# Altium footprint library PCB_XEM-S91.PcbLib: 7 footprints (part 3 of 3)
Each footprint in its own frame and in the unit in brackets; x right, y up, seen from the top. Pads: shape width x height; smd on the part's side, far side on the other; paste and mask are expansions set on the pad; w line width, h text height; cw(c..) or ccw(c..) is an arc to the next point about the centre after c.
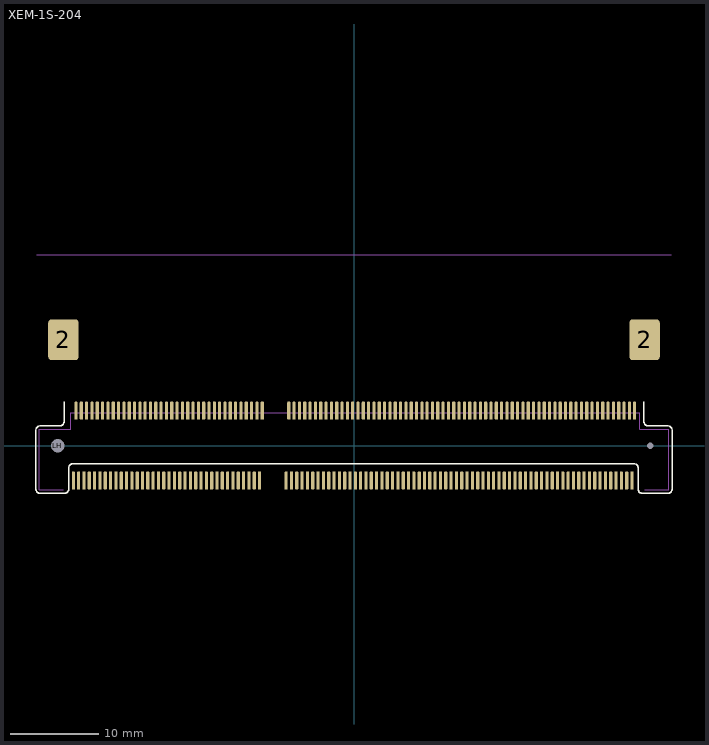
[diagram p2: the footprint, top view; thin cyan lines are the x and y axes]

## XEM-1S-204 [mil]
height 300
pads (208):
  rrect50% 14x80 smd mask+2: 1(-1246.06,-155) 2(-1234.25,155) 3(-1222.44,-155) 4(-1210.63,155) 5(-1198.82,-155) 6(-1187.01,155) 7(-1175.19,-155) 8(-1163.38,155) 9(-1151.57,-155) 10(-1139.76,155) 11(-1127.95,-155) 12(-1116.14,155) 13(-1104.33,-155) 14(-1092.52,155) 15(-1080.71,-155) 16(-1068.9,155) 17(-1057.08,-155) 18(-1045.27,155) 19(-1033.46,-155) 20(-1021.65,155) 21(-1009.84,-155) 22(-998.03,155) 23(-986.22,-155) 24(-974.41,155) 25(-962.6,-155) 26(-950.79,155) 27(-938.97,-155) 28(-927.16,155) 29(-915.35,-155) 30(-903.54,155) 31(-891.73,-155) 32(-879.92,155) 33(-868.11,-155) 34(-856.3,155) 35(-844.49,-155) 36(-832.68,155) 37(-820.86,-155) 38(-809.05,155) 39(-797.24,-155) 40(-785.43,155) 41(-773.62,-155) 42(-761.81,155) 43(-750,-155) 44(-738.19,155) 45(-726.38,-155) 46(-714.57,155) 47(-702.75,-155) 48(-690.94,155) 49(-679.13,-155) 50(-667.32,155) 51(-655.51,-155) 52(-643.7,155) 53(-631.89,-155) 54(-620.08,155) 55(-608.27,-155) 56(-596.46,155) 57(-584.64,-155) 58(-572.83,155) 59(-561.02,-155) 60(-549.21,155) 61(-537.4,-155) 62(-525.59,155) 63(-513.78,-155) 64(-501.97,155) 65(-490.16,-155) 66(-478.35,155) 67(-466.53,-155) 68(-454.72,155) 69(-442.91,-155) 70(-431.1,155) 71(-419.29,-155) 72(-407.48,155) 73(-301.18,-155) 74(-289.37,155) 75(-277.56,-155) 76(-265.75,155) 77(-253.94,-155) 78(-242.13,155) 79(-230.31,-155) 80(-218.5,155) 81(-206.69,-155) 82(-194.88,155) 83(-183.07,-155) 84(-171.26,155) 85(-159.45,-155) 86(-147.64,155) 87(-135.83,-155) 88(-124.02,155) 89(-112.2,-155) 90(-100.39,155) 91(-88.58,-155) 92(-76.77,155) 93(-64.96,-155) 94(-53.15,155) 95(-41.34,-155) 96(-29.53,155) 97(-17.72,-155) 98(-5.91,155) 99(5.91,-155) 100(17.72,155) 101(29.53,-155) 102(41.34,155) 103(53.15,-155) 104(64.96,155) 105(76.77,-155) 106(88.58,155) 107(100.39,-155) 108(112.2,155) 109(124.02,-155) 110(135.83,155) 111(147.64,-155) 112(159.45,155) 113(171.26,-155) 114(183.07,155) 115(194.88,-155) 116(206.69,155) 117(218.5,-155) 118(230.31,155) 119(242.13,-155) 120(253.94,155) 121(265.75,-155) 122(277.56,155) 123(289.37,-155) 124(301.18,155) 125(312.99,-155) 126(324.8,155) 127(336.61,-155) 128(348.42,155) 129(360.24,-155) 130(372.05,155) 131(383.86,-155) 132(395.67,155) 133(407.48,-155) 134(419.29,155) 135(431.1,-155) 136(442.91,155) 137(454.72,-155) 138(466.53,155) 139(478.35,-155) 140(490.16,155) 141(501.97,-155) 142(513.78,155) 143(525.59,-155) 144(537.4,155) 145(549.21,-155) 146(561.02,155) 147(572.83,-155) 148(584.64,155) 149(596.46,-155) 150(608.27,155) 151(620.08,-155) 152(631.89,155) 153(643.7,-155) 154(655.51,155) 155(667.32,-155) 156(679.13,155) 157(690.94,-155) 158(702.75,155) 159(714.57,-155) 160(726.38,155) 161(738.19,-155) 162(750,155) 163(761.81,-155) 164(773.62,155) 165(785.43,-155) 166(797.24,155) 167(809.05,-155) 168(820.86,155) 169(832.68,-155) 170(844.49,155) 171(856.3,-155) 172(868.11,155) 173(879.92,-155) 174(891.73,155) 175(903.54,-155) 176(915.35,155) 177(927.16,-155) 178(938.97,155) 179(950.79,-155) 180(962.6,155) 181(974.41,-155) 182(986.22,155) 183(998.03,-155) 184(1009.84,155) 185(1021.65,-155) 186(1033.46,155) 187(1045.27,-155) 188(1057.08,155) 189(1068.9,-155) 190(1080.71,155) 191(1092.52,-155) 192(1104.33,155) 193(1116.14,-155) 194(1127.95,155) 195(1139.76,-155) 196(1151.57,155) 197(1163.38,-155) 198(1175.19,155) 199(1187.01,-155) 200(1198.82,155) 201(1210.63,-155) 202(1222.44,155) 203(1234.25,-155) 204(1246.06,155)
  rrect20% 135x180 smd mask+2: 2(-1290,470) 2(1290,470)
  round 50 hole 60 unplated: LH(-1314.96,0)
  round 11.81 hole 28 unplated: RH(1314.96,0)
Top Overlay:
  lines w6: -1287,194 -1287,107.83 cw(c-1307,107.83) -1307,87.83 -1392.64,87.83 ccw(c-1392.64,67.83) -1412.64,67.83 ; 1287,194 1287,107.83 ccw(c1307,107.83) 1307,87.83 1392.64,87.83 cw(c1392.64,67.83) 1412.64,67.83 ; -1412.64,67.83 -1412.64,-191.85 ccw(c-1392.64,-191.85) -1392.64,-211.85 ; -1412.64,67.83 -1412.64,67.83 ; -1392.64,-211.85 -1286.34,-211.85 ccw(c-1286.34,-191.85) -1266.34,-191.85 -1266.34,-99.34 cw(c-1246.34,-99.34) -1246.34,-79.34 1241.34,-79.34 ; -1392.64,-211.85 -1392.64,-211.85 ; 1241.34,-79.34 cw(c1241.34,-99.34) 1261.34,-99.34 1261.34,-191.85 ccw(c1281.34,-191.85) 1281.34,-211.85 ; 1241.34,-79.34 1241.34,-79.34 ; 1281.34,-211.85 1392.64,-211.85 ccw(c1392.64,-191.85) 1412.64,-191.85 1412.64,67.83 ; 1281.34,-211.85 1281.34,-211.85 ; 1412.64,67.83 1412.64,67.83
Mechanical 16:
  lines w1: -1409.45,848.03 1409.45,848.03 ; -1291.34,-196.85 -1397.64,-196.85 -1397.64,72.83 -1257.87,72.83 -1257.87,145.67 1269.68,145.67 1269.68,72.83 1397.64,72.83 1397.64,-196.85 1291.34,-196.85
3D body: height 214.57, standoff -27.56, extent -1409.45,-196.85 1409.45,848.03